# EAGLE library part IC_FT232H (library akita)
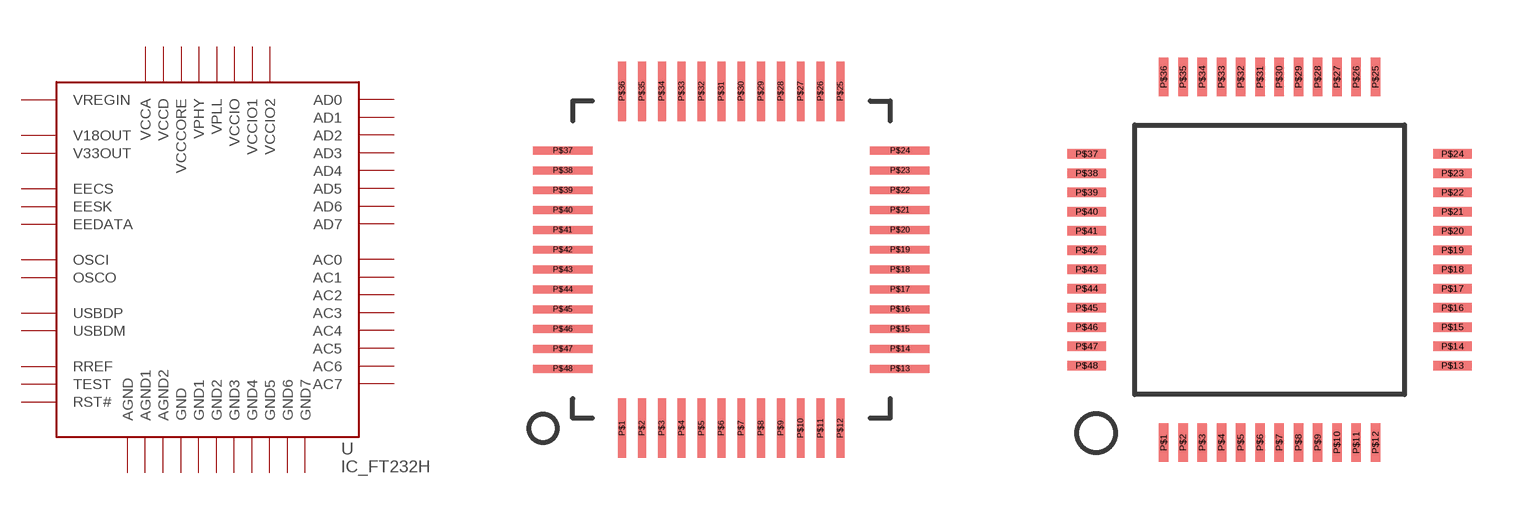
[diagram p133: symbol with the pads of QFN48; footprints QFN48, QFP48_05MM]

Designator prefix U

## IC_FT232HQ  [QFN48]

## IC_FT232HL  [QFP48_05MM]
P$1  OSCI
P$2  OSCO
P$3  VPHY
P$4  AGND
P$5  RREF
P$6  USBDM
P$7  USBDP
P$8  VPLL
P$9  AGND1
P$10  GND
P$11  GND1
P$12  VCCIO
P$13  AD0
P$14  AD1
P$15  AD2
P$16  AD3
P$17  AD4
P$18  AD5
P$19  AD6
P$20  AD7
P$21  AC0
P$22  GND2
P$23  GND3
P$24  VCCIO1
P$25  AC1
P$26  AC2
P$27  AC3
P$28  AC4
P$29  AC5
P$30  AC6
P$31  AC7
P$34  RST#
P$35  GND4
P$36  GND5
P$37  VCCA
P$38  VCCCORE
P$39  VCCD
P$40  VREGIN
P$41  AGND2
P$42  TEST
P$43  EEDATA
P$44  EESK
P$45  EECS
P$46  VCCIO2
P$47  GND6
P$48  GND7

## Footprint QFN48 (pad centres in mm)
QFN48 (0.5mm pitch) 8x8mm
smd 0.2 x 1.5: P$1 -2.75,-4.25; P$2 -2.25,-4.25; P$3 -1.75,-4.25; P$4 -1.25,-4.25; P$5 -0.75,-4.25; P$6 -0.25,-4.25; P$7 0.25,-4.25; P$8 0.75,-4.25; P$9 1.25,-4.25; P$10 1.75,-4.25; P$11 2.25,-4.25; P$12 2.75,-4.25; P$25 2.75,4.25; P$26 2.25,4.25; P$27 1.75,4.25; P$28 1.25,4.25; P$29 0.75,4.25; P$30 0.25,4.25; P$31 -0.25,4.25; P$32 -0.75,4.25; P$33 -1.25,4.25; P$34 -1.75,4.25; P$35 -2.25,4.25; P$36 -2.75,4.25
smd 1.5 x 0.2: P$13 4.25,-2.75; P$14 4.25,-2.25; P$15 4.25,-1.75; P$16 4.25,-1.25; P$17 4.25,-0.75; P$18 4.25,-0.25; P$19 4.25,0.25; P$20 4.25,0.75; P$21 4.25,1.25; P$22 4.25,1.75; P$23 4.25,2.25; P$24 4.25,2.75; P$37 -4.25,2.75; P$38 -4.25,2.25; P$39 -4.25,1.75; P$40 -4.25,1.25; P$41 -4.25,0.75; P$42 -4.25,0.25; P$43 -4.25,-0.25; P$44 -4.25,-0.75; P$45 -4.25,-1.25; P$46 -4.25,-1.75; P$47 -4.25,-2.25; P$48 -4.25,-2.75

## Footprint QFP48_05MM (pad centres in mm)
smd 0.25 x 1: P$1 -2.75,-4.75; P$2 -2.25,-4.75; P$3 -1.75,-4.75; P$4 -1.25,-4.75; P$5 -0.75,-4.75; P$6 -0.25,-4.75; P$7 0.25,-4.75; P$8 0.75,-4.75; P$9 1.25,-4.75; P$10 1.75,-4.75; P$11 2.25,-4.75; P$12 2.75,-4.75; P$25 2.75,4.75; P$26 2.25,4.75; P$27 1.75,4.75; P$28 1.25,4.75; P$29 0.75,4.75; P$30 0.25,4.75; P$31 -0.25,4.75; P$32 -0.75,4.75; P$33 -1.25,4.75; P$34 -1.75,4.75; P$35 -2.25,4.75; P$36 -2.75,4.75
smd 1 x 0.25: P$13 4.75,-2.75; P$14 4.75,-2.25; P$15 4.75,-1.75; P$16 4.75,-1.25; P$17 4.75,-0.75; P$18 4.75,-0.25; P$19 4.75,0.25; P$20 4.75,0.75; P$21 4.75,1.25; P$22 4.75,1.75; P$23 4.75,2.25; P$24 4.75,2.75; P$37 -4.75,2.75; P$38 -4.75,2.25; P$39 -4.75,1.75; P$40 -4.75,1.25; P$41 -4.75,0.75; P$42 -4.75,0.25; P$43 -4.75,-0.25; P$44 -4.75,-0.75; P$45 -4.75,-1.25; P$46 -4.75,-1.75; P$47 -4.75,-2.25; P$48 -4.75,-2.75